# Altium schematic symbol library Revo_connector_shinyoon.SchLib: 1 symbol
Pins are listed as number, name and electrical type; pins without a type are passive.

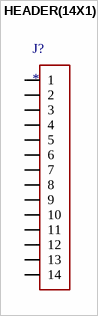
[diagram p0: symbol HEADER(14X1)]

## HEADER(14X1)
designator J?
HEADER; PartName: *; Value: *; Footprint: *; Made by: *; Note: *; ComponentLink1Description: Datasheet; ComponentLink1URL: *; ComponentLink2Description: Market; ComponentLink2URL: *
pins: 1, 2, 3, 4, 5, 6, 7, 8, 9, 10, 11, 12, 13, 14